# Altium footprint library SAMTEC SSW-106-03-T-S.PCBLIB: 1 footprints
Each footprint in its own frame and in the unit in brackets; x right, y up, seen from the top. Pads: shape width x height; smd on the part's side, far side on the other; paste and mask are expansions set on the pad; w line width, h text height; cw(c..) or ccw(c..) is an arc to the next point about the centre after c.
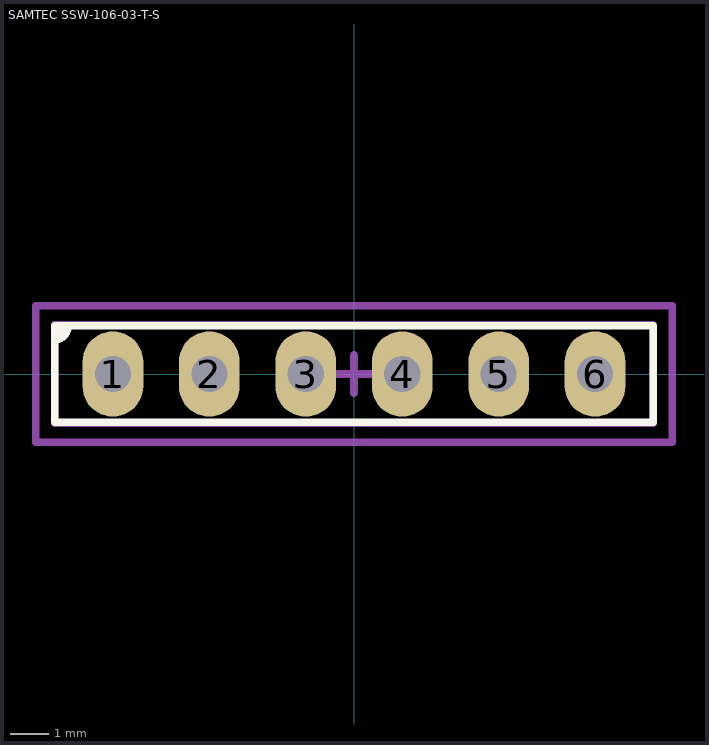
[diagram p0: the footprint, top view; thin cyan lines are the x and y axes]

## SAMTEC SSW-106-03-T-S [mm]
height 8.51
pads (6):
  oval 1.6x2.25 hole 0.95: 1(-6.35,0) 2(-3.81,0) 3(-1.27,0) 4(1.27,0) 5(3.81,0) 6(6.35,0)
Top Overlay:
  region: -7.88,1.27 -7.54,1.27 -7.54,1.1 -7.74,0.9 -7.88,0.9
  lines w0.2: -7.88,0.9 ccw(c-7.88,1.24) -7.54,1.24 -7.54,1.27 ; -7.88,-1.27 7.88,-1.27 7.88,1.27 -7.88,1.27 -7.88,-1.27
Mechanical 13:
  lines w0.2: -7.88,-1.3 -7.88,1.3 7.88,1.3 7.88,-1.3 -7.88,-1.3
Mechanical 15:
  lines w0.2: -0.5,0 0.5,0 ; 0,-0.5 0,0.5 ; -8.38,-1.8 8.38,-1.8 8.38,1.8 -8.38,1.8 -8.38,-1.8
3D body "Samtec-SSW-106-03-T-S.STEP": height 8.51, standoff -10.01, extent -7.874,-1.206 7.874,1.207